# Altium footprint library Goldpins.PcbLib: 7 footprints
Each footprint in its own frame and in the unit in brackets; x right, y up, seen from the top. Pads: shape width x height; smd on the part's side, far side on the other; paste and mask are expansions set on the pad; w line width, h text height; cw(c..) or ccw(c..) is an arc to the next point about the centre after c.
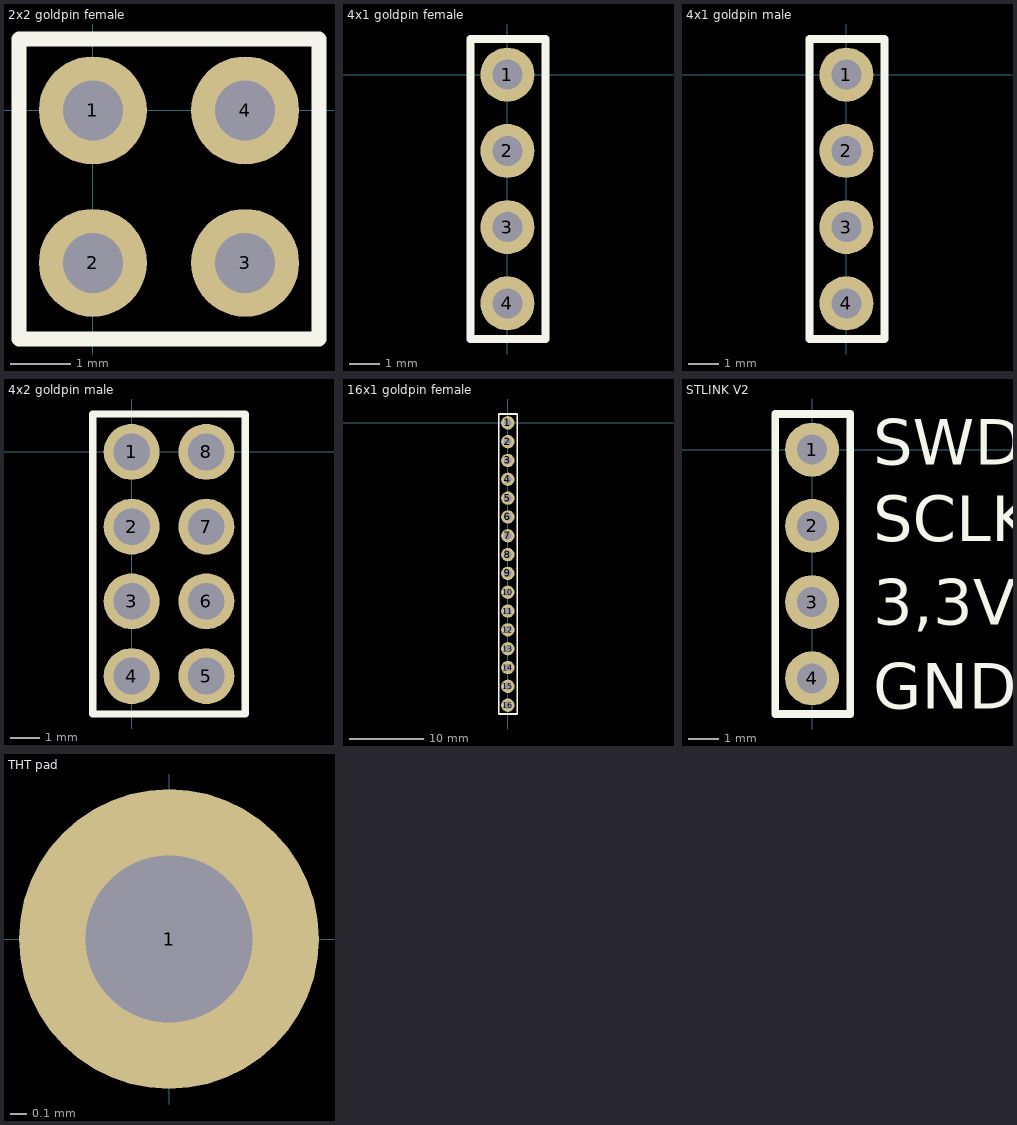
[diagram p0: the footprints below, top view; thin cyan lines are the x and y axes]

## 2x2 goldpin female [mm] "2x2 goldpin header female"
pads (4):
  round 1.8 hole 1: 1(0,0) 2(0,-2.54) 3(2.54,-2.54) 4(2.54,0)
Top Overlay:
  lines w0.254: -1.23,-3.81 -1.23,1.19 3.77,1.19 3.77,-3.81 -1.23,-3.81
3D body "PBD-4.step": height 8.5, standoff -3, extent -1.23,-3.85 3.85,1.23

## 4x1 goldpin female [mm] "4x1 goldpin header female"
pads (4):
  round 1.8 hole 1: 1(0,0) 2(0,-2.54) 3(0,-5.08) 4(0,-7.62)
Top Overlay:
  lines w0.254: -1.23,-8.81 -1.23,1.19 1.27,1.19 1.27,-8.81 -1.23,-8.81
3D body "PBS-4.step": height 8.5, standoff -3, extent -1.27,-8.89 1.27,1.27

## 4x1 goldpin male [mm] "4x1 goldpin header male"
pads (4):
  round 1.8 hole 1: 1(0,0) 2(0,-2.54) 3(0,-5.08) 4(0,-7.62)
Top Overlay:
  lines w0.254: -1.23,-8.81 -1.23,1.19 1.27,1.19 1.27,-8.81 -1.23,-8.81

## 4x2 goldpin male [mm] "4x2 goldpin header male"
pads (8):
  round 1.9 hole 1.25: 1(0,0) 2(0,-2.54) 3(0,-5.08) 4(0,-7.62) 5(2.54,-7.62) 6(2.54,-5.08) 7(2.54,-2.54) 8(2.54,0)
Top Overlay:
  lines w0.254: -1.33,-8.91 -1.33,1.29 3.87,1.29 3.87,-8.91 -1.33,-8.91
3D body "PLD-8.step": height 8.6, standoff -3, extent -1.27,-8.89 3.81,1.27

## 16x1 goldpin female [mm] "16x1 goldpin header female"
pads (16):
  round 1.8 hole 1: 1(0,0) 2(0,-2.54) 3(0,-5.08) 4(0,-7.62) 5(0,-10.16) 6(0,-12.7) 7(0,-15.24) 8(0,-17.78) 9(0,-20.32) 10(0,-22.86) 11(0,-25.4) 12(0,-27.94) 13(0,-30.48) 14(0,-33.02) 15(0,-35.56) 16(0,-38.1)
Top Overlay:
  lines w0.254: -1.23,-39.29 1.27,-39.29 ; -1.23,-39.285 -1.23,1.19 1.27,1.19 1.27,-39.285
3D body "16-Pin Header - Female - 2.54mm.step": height 5, standoff -3, extent -1.25,-39.57 1.25,1.57

## STLINK V2 [mm] "STLINK V2 pins"
pads (4):
  round 1.8 hole 1: 1(0,0) 2(0,-2.54) 3(0,-5.08) 4(0,-7.62)
Top Overlay:
  lines w0.254: -1.23,-8.81 -1.23,1.19 1.27,1.19 1.27,-8.81 -1.23,-8.81
  text "GND" at 2.032,-8.636 h1.52
  text "3,3V" at 2.032,-5.842 h1.52
  text "SCLK" at 2.032,-3.048 h1.52
  text "SWD" at 2.032,-0.508 h1.52

## THT pad [mm] "1,8 mm I/O pad"
pads (1):
  round 1.8 hole 1: 1(0,0)